# Altium schematic symbol library 2019-08-31_05-40-02.SchLib: 2 symbols
Pins are listed as number, name and electrical type; pins without a type are passive.

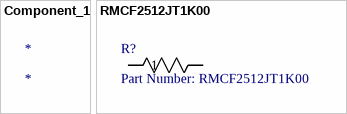
[diagram p0: symbols Component_1 to RMCF2512JT1K00]

## Component_1
designator *

## RMCF2512JT1K00
designator R?, comment Part Number: RMCF2512JT1K00
No Description Available; Vendor: Stackpole International; Built_By: EMA_UL_Team; Manufacturer_Part_Number: RMCF2512JT1K00; Copyright: Copyright (C) 2018 Accelerated Designs. All rights reserved; RefDes: RefDes; Type: DEV; Value: Value
footprint STA_RMCF2512
pins: 1, 2